# Altium footprint library CONN_TBLOCK_7P62.PcbLib: 76 footprints (part 1 of 5)
Each footprint in its own frame and in the unit in brackets; x right, y up, seen from the top. Pads: shape width x height; smd on the part's side, far side on the other; paste and mask are expansions set on the pad; w line width, h text height; cw(c..) or ccw(c..) is an arc to the next point about the centre after c.
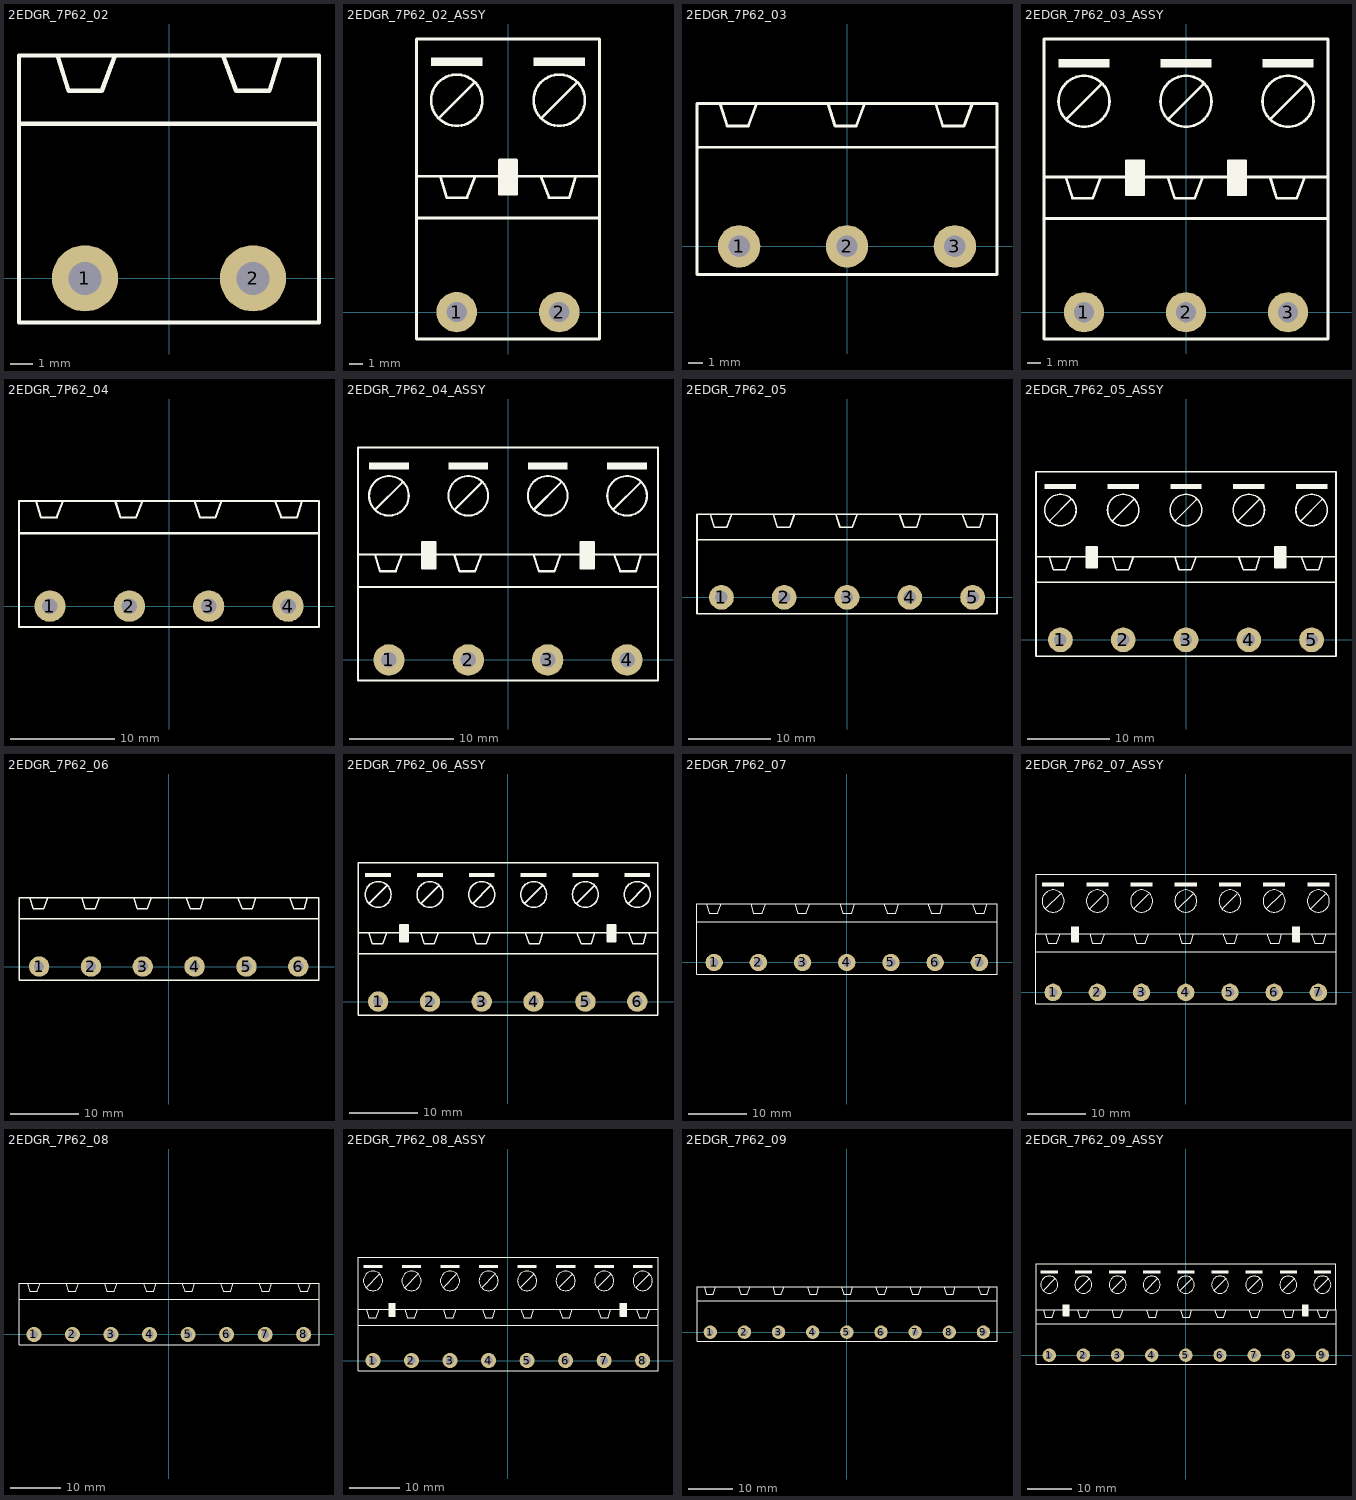
[diagram p0: the footprints below, top view; thin cyan lines are the x and y axes]

## 2EDGR_7P62_02 [mm] "Terminal B Plug. , pitch 7.62mm, H 8.6mm, PHOENIX GMSTB 2,5/x-G-7,62"
height 8.6
pads (2):
  round 3 hole 1.5: 1(-3.81,0) 2(3.81,0)
Top Overlay:
  lines w0.2: -6.8,7 6.8,7 ; -5.05,10.1 -4.55,8.5 -3.05,8.5 -2.45,10.1 ; 2.45,10.1 3.05,8.5 4.55,8.5 5.05,10.1 ; -6.8,-2 -6.8,10.1 6.8,10.1 6.8,-2 -6.8,-2
3D body "GMSTB-2-5-2-G-7-62_3D.stp": height 9.1, standoff -3, extent -6.72,-1.9 6.72,10.102

## 2EDGR_7P62_02_ASSY [mm] "Terminal B Plug. , pitch 7.62mm, H 8.6mm, PHOENIX GMSTB 2,5/x-G-7,62"
pads (2):
  round 3 hole 1.5: 1(-3.81,0) 2(3.81,0)
Top Overlay:
  circle w0.2: c-3.81,15.748 r1.905
  circle w0.2: c3.81,15.748 r1.905
  region: -1.905,18.923 -5.715,18.923 -5.715,18.288 -1.905,18.288
  region: 5.715,18.923 1.905,18.923 1.905,18.288 5.715,18.288
  region: 0.635,11.303 -0.635,11.303 -0.635,8.763 0.635,8.763
  lines w0.2: -6.8,7 6.8,7 ; -5.08,14.478 -2.54,17.018 ; -5.05,10.1 -4.55,8.5 -3.05,8.5 -2.45,10.1 ; 2.45,10.1 3.05,8.5 4.55,8.5 5.05,10.1 ; 2.54,14.478 5.08,17.018 ; -6.8,10.1 6.8,10.1 ; -6.8,10.1 -6.8,-2 6.8,-2 6.8,10.1 ; -6.8,10.1 -6.8,20.3 6.8,20.3 6.8,10.1 ; -0.635,8.763 0.635,8.763 0.635,11.303 -0.635,11.303 -0.635,8.763
3D body "GMSTB-2-5-2-ST-7-62_3D.stp": height 15.5, standoff 0.5, extent -6.62,2 6.62,20.2
3D body "GMSTB-2-5-2-G-7-62_3D.stp": height 9.1, standoff -3, extent -6.72,-1.9 6.72,10.102

## 2EDGR_7P62_03 [mm] "Terminal B Plug. , pitch 7.62mm, H 8.6mm, PHOENIX GMSTB 2,5/x-G-7,62"
height 8.6
pads (3):
  round 3 hole 1.5: 1(-7.62,0) 2(0,0) 3(7.62,0)
Top Overlay:
  lines w0.2: -10.6,7 10.6,7 ; -8.97,10.1 -8.47,8.5 -6.97,8.5 -6.37,10.1 ; -1.35,10.1 -0.85,8.5 0.65,8.5 1.25,10.1 ; 6.27,10.1 6.77,8.5 8.27,8.5 8.87,10.1 ; -10.6,-2 -10.6,10.1 10.6,10.1 10.6,-2 -10.6,-2
3D body "GMSTB-2-5-3-G-7-62_3D.stp": height 9.1, standoff -3, extent -10.53,-1.9 10.53,10.102

## 2EDGR_7P62_03_ASSY [mm] "Terminal B Plug. , pitch 7.62mm, H 8.6mm, PHOENIX GMSTB 2,5/x-G-7,62"
pads (3):
  round 3 hole 1.5: 1(-7.62,0) 2(0,0) 3(7.62,0)
Top Overlay:
  circle w0.2: c-7.62,15.748 r1.905
  circle w0.2: c0,15.748 r1.905
  circle w0.2: c7.62,15.748 r1.905
  rectangle: 3.175,8.763 4.445,11.303
  region: -3.175,11.303 -4.445,11.303 -4.445,8.763 -3.175,8.763
  region: -5.715,18.923 -9.525,18.923 -9.525,18.288 -5.715,18.288
  region: 1.905,18.923 -1.905,18.923 -1.905,18.288 1.905,18.288
  region: 9.525,18.923 5.715,18.923 5.715,18.288 9.525,18.288
  lines w0.2: -10.6,7 10.6,7 ; -8.97,10.1 -8.47,8.5 -6.97,8.5 -6.37,10.1 ; -8.89,14.478 -6.35,17.018 ; -1.35,10.1 -0.85,8.5 0.65,8.5 1.25,10.1 ; -1.27,14.478 1.27,17.018 ; 6.27,10.1 6.77,8.5 8.27,8.5 8.87,10.1 ; 6.35,14.478 8.89,17.018 ; -10.6,10.1 -10.6,20.4 10.6,20.4 10.6,10.1 ; -10.6,10.1 -10.6,-2 10.6,-2 10.6,10.1 ; -10.6,10.1 10.6,10.1 ; -4.445,8.763 -4.445,11.303 -3.175,11.303 -3.175,8.763 -4.445,8.763 ; 3.175,8.763 4.445,8.763 4.445,11.303 3.175,11.303 3.175,8.763
3D body "GMSTB-2-5-3-ST-7-62_3D.stp": height 15.5, standoff 0.5, extent -10.43,2 10.43,20.2
3D body "GMSTB-2-5-3-G-7-62_3D.stp": height 9.1, standoff -3, extent -10.53,-1.9 10.53,10.102

## 2EDGR_7P62_04 [mm] "Terminal B Plug. , pitch 7.62mm, H 8.6mm, PHOENIX GMSTB 2,5/x-G-7,62"
height 8.6
pads (4):
  round 3 hole 1.5: 1(-11.43,0) 2(-3.81,0) 3(3.81,0) 4(11.43,0)
Top Overlay:
  lines w0.2: -14.4,7 14.4,7 ; -12.78,10.1 -12.28,8.5 -10.78,8.5 -10.18,10.1 ; -5.16,10.1 -4.66,8.5 -3.16,8.5 -2.56,10.1 ; 2.46,10.1 2.96,8.5 4.46,8.5 5.06,10.1 ; 10.18,10.1 10.78,8.5 12.28,8.5 12.78,10.1 ; -14.4,-2 14.4,-2 14.4,10.1 -14.4,10.1 -14.4,-2
3D body "GMSTB-2-5-4-G-7-62_3D.stp": height 9.1, standoff -3, extent -14.34,-1.9 14.34,10.102

## 2EDGR_7P62_04_ASSY [mm] "Terminal B Plug. , pitch 7.62mm, H 8.6mm, PHOENIX GMSTB 2,5/x-G-7,62"
pads (4):
  round 3 hole 1.5: 1(-11.43,0) 2(-3.81,0) 3(3.81,0) 4(11.43,0)
Top Overlay:
  circle w0.2: c-11.43,15.748 r1.905
  circle w0.2: c-3.81,15.748 r1.905
  circle w0.2: c3.81,15.748 r1.905
  circle w0.2: c11.43,15.748 r1.905
  rectangle: 6.985,8.763 8.255,11.303
  region: -6.985,11.303 -8.255,11.303 -8.255,8.763 -6.985,8.763
  region: -9.525,18.923 -13.335,18.923 -13.335,18.288 -9.525,18.288
  region: -1.905,18.923 -5.715,18.923 -5.715,18.288 -1.905,18.288
  region: 5.715,18.923 1.905,18.923 1.905,18.288 5.715,18.288
  region: 13.335,18.923 9.525,18.923 9.525,18.288 13.335,18.288
  lines w0.2: -14.4,7 14.4,7 ; -12.78,10.1 -12.28,8.5 -10.78,8.5 -10.18,10.1 ; -12.7,14.478 -10.16,17.018 ; -5.16,10.1 -4.66,8.5 -3.16,8.5 -2.56,10.1 ; -5.08,14.478 -2.54,17.018 ; 2.46,10.1 2.96,8.5 4.46,8.5 5.06,10.1 ; 2.54,14.478 5.08,17.018 ; 10.16,14.478 12.7,17.018 ; 10.18,10.1 10.78,8.5 12.28,8.5 12.78,10.1 ; -14.4,10.1 -14.4,20.4 14.4,20.4 14.4,10.1 ; -14.4,10.1 -14.4,-2 14.4,-2 14.4,10.1 ; -14.4,10.1 14.4,10.1 ; -8.255,8.763 -8.255,11.303 -6.985,11.303 -6.985,8.763 -8.255,8.763 ; 6.985,8.763 8.255,8.763 8.255,11.303 6.985,11.303 6.985,8.763
3D body "GMSTB-2-5-4-G-7-62_3D.stp": height 9.1, standoff -3, extent -14.34,-1.9 14.34,10.102
3D body "GMSTB-2-5-4-ST-7-62_3D.stp": height 15.5, standoff 0.5, extent -14.24,2 14.24,20.2

## 2EDGR_7P62_05 [mm] "Terminal B Plug. , pitch 7.62mm, H 8.6mm, PHOENIX GMSTB 2,5/x-G-7,62"
height 8.6
pads (5):
  round 3 hole 1.5: 1(-15.24,0) 2(-7.62,0) 3(0,0) 4(7.62,0) 5(15.24,0)
Top Overlay:
  lines w0.2: -18.2,7 18.2,7 ; -16.59,10.1 -16.09,8.5 -14.59,8.5 -13.99,10.1 ; -8.97,10.1 -8.47,8.5 -6.97,8.5 -6.37,10.1 ; -1.35,10.1 -0.85,8.5 0.65,8.5 1.25,10.1 ; 6.37,10.1 6.97,8.5 8.47,8.5 8.97,10.1 ; 13.99,10.1 14.59,8.5 16.09,8.5 16.59,10.1 ; -18.2,-2 -18.2,10.1 18.2,10.1 18.2,-2 -18.2,-2
3D body "GMSTB-2-5-5-G-7-62_3D.stp": height 9.1, standoff -3, extent -18.15,-1.9 18.15,10.102

## 2EDGR_7P62_05_ASSY [mm] "Terminal B Plug. , pitch 7.62mm, H 8.6mm, PHOENIX GMSTB 2,5/x-G-7,62"
pads (5):
  round 3 hole 1.5: 1(-15.24,0) 2(-7.62,0) 3(0,0) 4(7.62,0) 5(15.24,0)
Top Overlay:
  circle w0.2: c15.24,15.748 r1.905
  circle w0.2: c7.62,15.748 r1.905
  circle w0.2: c0,15.748 r1.905
  circle w0.2: c-7.62,15.748 r1.905
  circle w0.2: c-15.24,15.748 r1.905
  region: -10.795,11.303 -12.065,11.303 -12.065,8.763 -10.795,8.763
  rectangle: 10.795,8.763 12.065,11.303
  region: 17.145,18.923 13.335,18.923 13.335,18.288 17.145,18.288
  region: 9.525,18.923 5.715,18.923 5.715,18.288 9.525,18.288
  region: 1.905,18.923 -1.905,18.923 -1.905,18.288 1.905,18.288
  region: -5.715,18.923 -9.525,18.923 -9.525,18.288 -5.715,18.288
  region: -13.335,18.923 -17.145,18.923 -17.145,18.288 -13.335,18.288
  lines w0.2: -18.2,7 18.2,7 ; -16.59,10.1 -16.09,8.5 -14.59,8.5 -13.99,10.1 ; -16.51,14.478 -13.97,17.018 ; -8.97,10.1 -8.47,8.5 -6.97,8.5 -6.37,10.1 ; -8.89,14.478 -6.35,17.018 ; -1.35,10.1 -0.85,8.5 0.65,8.5 1.25,10.1 ; -1.27,14.478 1.27,17.018 ; 6.35,14.478 8.89,17.018 ; 6.37,10.1 6.97,8.5 8.47,8.5 8.97,10.1 ; 13.97,14.478 16.51,17.018 ; 13.99,10.1 14.59,8.5 16.09,8.5 16.59,10.1 ; -18.2,10.1 18.2,10.1 ; -18.2,10.1 -18.2,-2 18.2,-2 18.2,10.1 ; -18.2,10.1 -18.2,20.4 18.2,20.4 18.2,10.1 ; -12.065,8.763 -12.065,11.303 -10.795,11.303 -10.795,8.763 -12.065,8.763 ; 10.795,8.763 12.065,8.763 12.065,11.303 10.795,11.303 10.795,8.763
3D body "GMSTB-2-5-5-G-7-62_3D.stp": height 9.1, standoff -3, extent -18.15,-1.9 18.15,10.102
3D body "GMSTB-2-5-5-ST-7-62_3D.stp": height 15.5, standoff 0.5, extent -18.05,2 18.05,20.2

## 2EDGR_7P62_06 [mm] "Terminal B Plug. , pitch 7.62mm, H 8.6mm, PHOENIX GMSTB 2,5/x-G-7,62"
height 8.6
pads (6):
  round 3 hole 1.5: 1(-19.05,0) 2(-11.43,0) 3(-3.81,0) 4(3.81,0) 5(11.43,0) 6(19.05,0)
Top Overlay:
  lines w0.2: -22.01,7 22.1,7 ; -20.4,10.1 -19.9,8.5 -18.4,8.5 -17.8,10.1 ; -12.78,10.1 -12.28,8.5 -10.78,8.5 -10.18,10.1 ; -5.16,10.1 -4.66,8.5 -3.16,8.5 -2.56,10.1 ; 2.56,10.1 3.16,8.5 4.66,8.5 5.16,10.1 ; 10.18,10.1 10.78,8.5 12.28,8.5 12.78,10.1 ; 17.8,10.1 18.4,8.5 19.9,8.5 20.4,10.1 ; -22.01,-2 22.1,-2 22.1,10.1 -22.01,10.1 -22.01,-2
3D body "GMSTB-2-5-6-G-7-62_3D.stp": height 9.1, standoff -3, extent -21.96,-1.9 21.96,10.102

## 2EDGR_7P62_06_ASSY [mm] "Terminal B Plug. , pitch 7.62mm, H 8.6mm, PHOENIX GMSTB 2,5/x-G-7,62"
pads (6):
  round 3 hole 1.5: 1(-19.05,0) 2(-11.43,0) 3(-3.81,0) 4(3.81,0) 5(11.43,0) 6(19.05,0)
Top Overlay:
  circle w0.2: c19.05,15.748 r1.905
  circle w0.2: c11.43,15.748 r1.905
  circle w0.2: c3.81,15.748 r1.905
  circle w0.2: c-3.81,15.748 r1.905
  circle w0.2: c-11.43,15.748 r1.905
  circle w0.2: c-19.05,15.748 r1.905
  rectangle: 14.605,8.763 15.875,11.303
  region: -14.605,11.303 -15.875,11.303 -15.875,8.763 -14.605,8.763
  region: 20.955,18.923 17.145,18.923 17.145,18.288 20.955,18.288
  region: 13.335,18.923 9.525,18.923 9.525,18.288 13.335,18.288
  region: 5.715,18.923 1.905,18.923 1.905,18.288 5.715,18.288
  region: -1.905,18.923 -5.715,18.923 -5.715,18.288 -1.905,18.288
  region: -9.525,18.923 -13.335,18.923 -13.335,18.288 -9.525,18.288
  region: -17.145,18.923 -20.955,18.923 -20.955,18.288 -17.145,18.288
  lines w0.2: -22.01,7 22.1,7 ; -22,10.1 -22,20.4 22.1,20.4 22.1,10.1 ; -20.4,10.1 -19.9,8.5 -18.4,8.5 -17.8,10.1 ; -20.32,14.478 -17.78,17.018 ; -12.78,10.1 -12.28,8.5 -10.78,8.5 -10.18,10.1 ; -12.7,14.478 -10.16,17.018 ; -5.16,10.1 -4.66,8.5 -3.16,8.5 -2.56,10.1 ; -5.08,14.478 -2.54,17.018 ; 2.54,14.478 5.08,17.018 ; 2.56,10.1 3.16,8.5 4.66,8.5 5.16,10.1 ; 10.16,14.478 12.7,17.018 ; 10.18,10.1 10.78,8.5 12.28,8.5 12.78,10.1 ; 17.78,14.478 20.32,17.018 ; 17.8,10.1 18.4,8.5 19.9,8.5 20.4,10.1 ; 22.1,10.1 22.1,-2 -22.01,-2 -22.01,10.1 22.1,10.1 ; -15.875,8.763 -15.875,11.303 -14.605,11.303 -14.605,8.763 -15.875,8.763 ; 14.605,8.763 15.875,8.763 15.875,11.303 14.605,11.303 14.605,8.763
3D body "GMSTB-2-5-6-G-7-62_3D.stp": height 9.1, standoff -3, extent -21.96,-1.9 21.96,10.102
3D body "GMSTB-2-5-6-ST-7-62_3D.stp": height 15.5, standoff 0.5, extent -21.86,2 21.86,20.2

## 2EDGR_7P62_07 [mm] "Terminal B Plug. , pitch 7.62mm, H 8.6mm, PHOENIX GMSTB 2,5/x-G-7,62"
height 8.6
pads (7):
  round 3 hole 1.5: 1(-22.86,0) 2(-15.24,0) 3(-7.62,0) 4(0,0) 5(7.62,0) 6(15.24,0) 7(22.86,0)
Top Overlay:
  lines w0.2: -25.82,7 25.9,7 ; -24.21,10.1 -23.71,8.5 -22.21,8.5 -21.61,10.1 ; -16.59,10.1 -16.09,8.5 -14.59,8.5 -13.99,10.1 ; -8.97,10.1 -8.47,8.5 -6.97,8.5 -6.37,10.1 ; -1.25,10.1 -0.65,8.5 0.85,8.5 1.35,10.1 ; 6.37,10.1 6.97,8.5 8.47,8.5 8.97,10.1 ; 13.99,10.1 14.59,8.5 16.09,8.5 16.59,10.1 ; 21.61,10.1 22.21,8.5 23.71,8.5 24.21,10.1 ; -25.82,-2 25.9,-2 25.9,10.1 -25.82,10.1 -25.82,-2
3D body "GMSTB-2-5-7-G-7-62_3D.stp": height 9.1, standoff -3, extent -25.77,-1.9 25.77,10.102

## 2EDGR_7P62_07_ASSY [mm] "Terminal B Plug. , pitch 7.62mm, H 8.6mm, PHOENIX GMSTB 2,5/x-G-7,62"
pads (7):
  round 3 hole 1.5: 1(-22.86,0) 2(-15.24,0) 3(-7.62,0) 4(0,0) 5(7.62,0) 6(15.24,0) 7(22.86,0)
Top Overlay:
  circle w0.2: c22.86,15.748 r1.905
  circle w0.2: c15.24,15.748 r1.905
  circle w0.2: c7.62,15.748 r1.905
  circle w0.2: c0,15.748 r1.905
  circle w0.2: c-7.62,15.748 r1.905
  circle w0.2: c-15.24,15.748 r1.905
  circle w0.2: c-22.86,15.748 r1.905
  region: -18.415,11.303 -19.685,11.303 -19.685,8.763 -18.415,8.763
  rectangle: 18.415,8.763 19.685,11.303
  region: 24.765,18.923 20.955,18.923 20.955,18.288 24.765,18.288
  region: 17.145,18.923 13.335,18.923 13.335,18.288 17.145,18.288
  region: 9.525,18.923 5.715,18.923 5.715,18.288 9.525,18.288
  region: 1.905,18.923 -1.905,18.923 -1.905,18.288 1.905,18.288
  region: -5.715,18.923 -9.525,18.923 -9.525,18.288 -5.715,18.288
  region: -13.335,18.923 -17.145,18.923 -17.145,18.288 -13.335,18.288
  region: -20.955,18.923 -24.765,18.923 -24.765,18.288 -20.955,18.288
  lines w0.2: -25.82,7 25.9,7 ; -25.8,10.1 -25.8,20.4 25.9,20.4 25.9,10.1 ; -24.21,10.1 -23.71,8.5 -22.21,8.5 -21.61,10.1 ; -24.13,14.478 -21.59,17.018 ; -16.59,10.1 -16.09,8.5 -14.59,8.5 -13.99,10.1 ; -16.51,14.478 -13.97,17.018 ; -8.97,10.1 -8.47,8.5 -6.97,8.5 -6.37,10.1 ; -8.89,14.478 -6.35,17.018 ; -1.27,14.478 1.27,17.018 ; -1.25,10.1 -0.65,8.5 0.85,8.5 1.35,10.1 ; 6.35,14.478 8.89,17.018 ; 6.37,10.1 6.97,8.5 8.47,8.5 8.97,10.1 ; 13.97,14.478 16.51,17.018 ; 13.99,10.1 14.59,8.5 16.09,8.5 16.59,10.1 ; 21.59,14.478 24.13,17.018 ; 21.61,10.1 22.21,8.5 23.71,8.5 24.21,10.1 ; 25.9,10.1 25.9,-2 -25.82,-2 -25.82,10.1 25.9,10.1 ; -19.685,8.763 -19.685,11.303 -18.415,11.303 -18.415,8.763 -19.685,8.763 ; 18.415,8.763 19.685,8.763 19.685,11.303 18.415,11.303 18.415,8.763
3D body "GMSTB-2-5-7-G-7-62_3D.stp": height 9.1, standoff -3, extent -25.77,-1.9 25.77,10.102
3D body "GMSTB-2-5-7-ST-7-62_3D.stp": height 15.5, standoff 0.5, extent -25.67,2 25.67,20.2

## 2EDGR_7P62_08 [mm] "Terminal B Plug. , pitch 7.62mm, H 8.6mm, PHOENIX GMSTB 2,5/x-G-7,62"
height 8.6
pads (8):
  round 3 hole 1.5: 1(-26.67,0) 2(-19.05,0) 3(-11.43,0) 4(-3.81,0) 5(3.81,0) 6(11.43,0) 7(19.05,0) 8(26.67,0)
Top Overlay:
  lines w0.2: -29.63,7 29.7,7 ; -28.02,10.1 -27.52,8.5 -26.02,8.5 -25.42,10.1 ; -20.4,10.1 -19.9,8.5 -18.4,8.5 -17.8,10.1 ; -12.78,10.1 -12.28,8.5 -10.78,8.5 -10.18,10.1 ; -5.06,10.1 -4.46,8.5 -2.96,8.5 -2.46,10.1 ; 2.56,10.1 3.16,8.5 4.66,8.5 5.16,10.1 ; 10.18,10.1 10.78,8.5 12.28,8.5 12.78,10.1 ; 17.8,10.1 18.4,8.5 19.9,8.5 20.4,10.1 ; 25.42,10.1 26.02,8.5 27.52,8.5 28.02,10.1 ; -29.63,-2 29.7,-2 29.7,10.1 -29.63,10.1 -29.63,-2
3D body "GMSTB-2-5-8-G-7-62_3D.stp": height 9.1, standoff -3, extent -29.58,-1.9 29.58,10.102

## 2EDGR_7P62_08_ASSY [mm] "Terminal B Plug. , pitch 7.62mm, H 8.6mm, PHOENIX GMSTB 2,5/x-G-7,62"
pads (8):
  round 3 hole 1.5: 1(-26.67,0) 2(-19.05,0) 3(-11.43,0) 4(-3.81,0) 5(3.81,0) 6(11.43,0) 7(19.05,0) 8(26.67,0)
Top Overlay:
  circle w0.2: c26.67,15.748 r1.905
  circle w0.2: c19.05,15.748 r1.905
  circle w0.2: c11.43,15.748 r1.905
  circle w0.2: c3.81,15.748 r1.905
  circle w0.2: c-3.81,15.748 r1.905
  circle w0.2: c-11.43,15.748 r1.905
  circle w0.2: c-19.05,15.748 r1.905
  circle w0.2: c-26.67,15.748 r1.905
  rectangle: 22.225,8.763 23.495,11.303
  region: -22.225,11.303 -23.495,11.303 -23.495,8.763 -22.225,8.763
  region: 28.575,18.923 24.765,18.923 24.765,18.288 28.575,18.288
  region: 20.955,18.923 17.145,18.923 17.145,18.288 20.955,18.288
  region: 13.335,18.923 9.525,18.923 9.525,18.288 13.335,18.288
  region: 5.715,18.923 1.905,18.923 1.905,18.288 5.715,18.288
  region: -1.905,18.923 -5.715,18.923 -5.715,18.288 -1.905,18.288
  region: -9.525,18.923 -13.335,18.923 -13.335,18.288 -9.525,18.288
  region: -17.145,18.923 -20.955,18.923 -20.955,18.288 -17.145,18.288
  region: -24.765,18.923 -28.575,18.923 -28.575,18.288 -24.765,18.288
  lines w0.2: -29.63,7 29.7,7 ; -29.6,10.1 -29.6,20.4 29.7,20.4 29.7,10.1 ; -28.02,10.1 -27.52,8.5 -26.02,8.5 -25.42,10.1 ; -27.94,14.478 -25.4,17.018 ; -20.4,10.1 -19.9,8.5 -18.4,8.5 -17.8,10.1 ; -20.32,14.478 -17.78,17.018 ; -12.78,10.1 -12.28,8.5 -10.78,8.5 -10.18,10.1 ; -12.7,14.478 -10.16,17.018 ; -5.08,14.478 -2.54,17.018 ; -5.06,10.1 -4.46,8.5 -2.96,8.5 -2.46,10.1 ; 2.54,14.478 5.08,17.018 ; 2.56,10.1 3.16,8.5 4.66,8.5 5.16,10.1 ; 10.16,14.478 12.7,17.018 ; 10.18,10.1 10.78,8.5 12.28,8.5 12.78,10.1 ; 17.78,14.478 20.32,17.018 ; 17.8,10.1 18.4,8.5 19.9,8.5 20.4,10.1 ; 25.4,14.478 27.94,17.018 ; 25.42,10.1 26.02,8.5 27.52,8.5 28.02,10.1 ; 29.7,10.1 -29.63,10.1 -29.63,-2 29.7,-2 29.7,10.1 ; -23.495,8.763 -23.495,11.303 -22.225,11.303 -22.225,8.763 -23.495,8.763 ; 22.225,8.763 23.495,8.763 23.495,11.303 22.225,11.303 22.225,8.763
3D body "GMSTB-2-5-8-G-7-62_3D.stp": height 9.1, standoff -3, extent -29.58,-1.9 29.58,10.102
3D body "GMSTB-2-5-8-ST-7-62_3D.stp": height 15.5, standoff 0.5, extent -29.48,2 29.48,20.2

## 2EDGR_7P62_09 [mm] "Terminal B Plug. , pitch 7.62mm, H 8.6mm, PHOENIX GMSTB 2,5/x-G-7,62"
height 8.6
pads (9):
  round 3 hole 1.5: 1(-30.48,0) 2(-22.86,0) 3(-15.24,0) 4(-7.62,0) 5(0,0) 6(7.62,0) 7(15.24,0) 8(22.86,0) 9(30.48,0)
Top Overlay:
  lines w0.2: -33.44,7 33.5,7 ; -31.83,10.1 -31.33,8.5 -29.83,8.5 -29.23,10.1 ; -24.21,10.1 -23.71,8.5 -22.21,8.5 -21.61,10.1 ; -16.59,10.1 -16.09,8.5 -14.59,8.5 -13.99,10.1 ; -8.87,10.1 -8.27,8.5 -6.77,8.5 -6.27,10.1 ; -1.25,10.1 -0.65,8.5 0.85,8.5 1.35,10.1 ; 6.37,10.1 6.97,8.5 8.47,8.5 8.97,10.1 ; 13.99,10.1 14.59,8.5 16.09,8.5 16.59,10.1 ; 21.61,10.1 22.21,8.5 23.71,8.5 24.21,10.1 ; 29.23,10.1 29.83,8.5 31.33,8.5 31.83,10.1 ; -33.44,-2 -33.44,10.1 33.5,10.1 33.5,-2 -33.44,-2
3D body "GMSTB-2-5-9-G-7-62_3D.stp": height 9.1, standoff -3, extent -33.39,-1.9 33.39,10.102

## 2EDGR_7P62_09_ASSY [mm] "Terminal B Plug. , pitch 7.62mm, H 8.6mm, PHOENIX GMSTB 2,5/x-G-7,62"
height 8.6
pads (9):
  round 3 hole 1.5: 1(-30.48,0) 2(-22.86,0) 3(-15.24,0) 4(-7.62,0) 5(0,0) 6(7.62,0) 7(15.24,0) 8(22.86,0) 9(30.48,0)
Top Overlay:
  circle w0.2: c30.48,15.748 r1.905
  circle w0.2: c22.86,15.748 r1.905
  circle w0.2: c15.24,15.748 r1.905
  circle w0.2: c7.62,15.748 r1.905
  circle w0.2: c-30.48,15.748 r1.905
  circle w0.2: c-22.86,15.748 r1.905
  circle w0.2: c-15.24,15.748 r1.905
  circle w0.2: c-7.62,15.748 r1.905
  circle w0.2: c0,15.748 r1.905
  region: -26.035,11.303 -27.305,11.303 -27.305,8.763 -26.035,8.763
  rectangle: 26.035,8.763 27.305,11.303
  region: 32.385,18.923 28.575,18.923 28.575,18.288 32.385,18.288
  region: 24.765,18.923 20.955,18.923 20.955,18.288 24.765,18.288
  region: 17.145,18.923 13.335,18.923 13.335,18.288 17.145,18.288
  region: 9.525,18.923 5.715,18.923 5.715,18.288 9.525,18.288
  region: -28.575,18.923 -32.385,18.923 -32.385,18.288 -28.575,18.288
  region: -20.955,18.923 -24.765,18.923 -24.765,18.288 -20.955,18.288
  region: -13.335,18.923 -17.145,18.923 -17.145,18.288 -13.335,18.288
  region: -5.715,18.923 -9.525,18.923 -9.525,18.288 -5.715,18.288
  region: 1.905,18.923 -1.905,18.923 -1.905,18.288 1.905,18.288
  lines w0.2: -33.44,7 33.5,7 ; -33.4,10.1 -33.4,20.4 33.4,20.4 33.4,10.1 ; -31.83,10.1 -31.33,8.5 -29.83,8.5 -29.23,10.1 ; -31.75,14.478 -29.21,17.018 ; -24.21,10.1 -23.71,8.5 -22.21,8.5 -21.61,10.1 ; -24.13,14.478 -21.59,17.018 ; -16.59,10.1 -16.09,8.5 -14.59,8.5 -13.99,10.1 ; -16.51,14.478 -13.97,17.018 ; -8.89,14.478 -6.35,17.018 ; -8.87,10.1 -8.27,8.5 -6.77,8.5 -6.27,10.1 ; -1.27,14.478 1.27,17.018 ; -1.25,10.1 -0.65,8.5 0.85,8.5 1.35,10.1 ; 6.35,14.478 8.89,17.018 ; 6.37,10.1 6.97,8.5 8.47,8.5 8.97,10.1 ; 13.97,14.478 16.51,17.018 ; 13.99,10.1 14.59,8.5 16.09,8.5 16.59,10.1 ; 21.59,14.478 24.13,17.018 ; 21.61,10.1 22.21,8.5 23.71,8.5 24.21,10.1 ; 29.21,14.478 31.75,17.018 ; 29.23,10.1 29.83,8.5 31.33,8.5 31.83,10.1 ; -33.44,-2 33.5,-2 33.5,10.1 -33.44,10.1 -33.44,-2 ; -27.305,8.763 -27.305,11.303 -26.035,11.303 -26.035,8.763 -27.305,8.763 ; 26.035,8.763 27.305,8.763 27.305,11.303 26.035,11.303 26.035,8.763
3D body "GMSTB-2-5-9-ST-7-62_3D.stp": height 15.5, standoff 0.5, extent -33.29,2 33.29,20.2
3D body "GMSTB-2-5-9-G-7-62_3D.stp": height 9.1, standoff -3, extent -33.39,-1.9 33.39,10.102